# Altium footprint library D-SUB-26.PcbLib: 1 footprints
Each footprint in its own frame and in the unit in brackets; x right, y up, seen from the top. Pads: shape width x height; smd on the part's side, far side on the other; paste and mask are expansions set on the pad; w line width, h text height; cw(c..) or ccw(c..) is an arc to the next point about the centre after c.
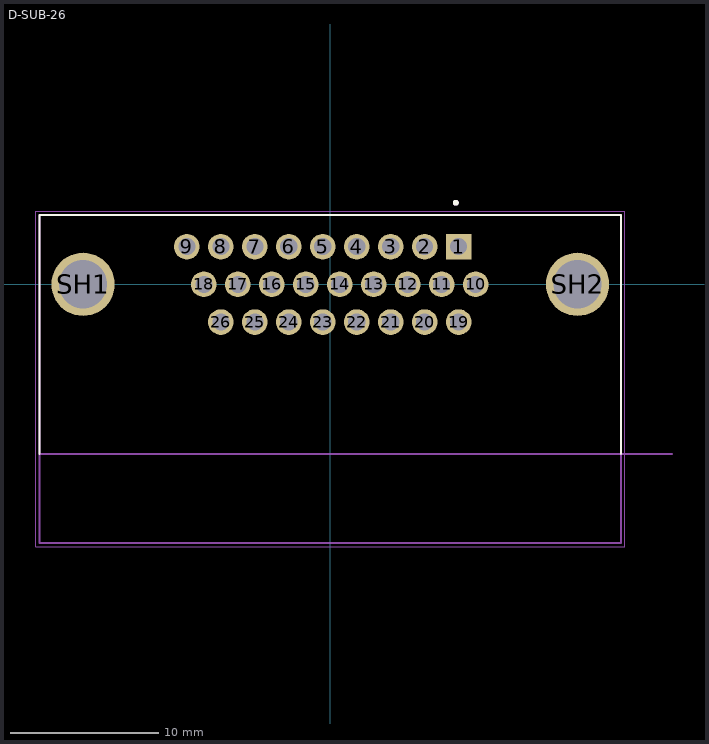
[diagram p0: the footprint, top view; thin cyan lines are the x and y axes]

## D-SUB-26 [mm]
pads (28):
  rect 1.725x1.725 / inner round 1.725 / far side rect 1.725x1.725 hole 1.15: 1(8.65,2.54)
  round 1.725 hole 1.15: 2(6.36,2.54) 3(4.07,2.54) 4(1.78,2.54) 5(-0.51,2.54) 6(-2.8,2.54) 7(-5.09,2.54) 8(-7.38,2.54) 9(-9.67,2.54) 10(9.795,0) 11(7.505,0) 12(5.215,0) 13(2.925,0) 14(0.635,0) 15(-1.655,0) 16(-3.945,0) 17(-6.235,0) 18(-8.525,0) 19(8.65,-2.54) 20(6.36,-2.54) 21(4.07,-2.54) 22(1.78,-2.54) 23(-0.51,-2.54) 24(-2.8,-2.54) 25(-5.09,-2.54) 26(-7.38,-2.54)
  round 4.266 hole 3.25: SH1(-16.66,0) SH2(16.66,0)
Top Overlay:
  circle w0.2: c8.455,5.5 r0.1
  lines w0.127: -19.595,-11.43 -19.595,4.67 19.595,4.67 19.595,-11.43
Mechanical 13:
  circle w0.2: c8.455,5.5 r0.1
  lines w0.127: 23.035,-11.43 19.595,-11.43 ; -19.595,-11.43 -19.595,4.67 19.595,4.67 19.595,-11.43 ; -19.595,-11.43 -19.595,-17.43 19.595,-17.43 19.595,-11.43 ; -19.595,-11.43 19.595,-11.43
  text "PCB Edge" at 20.295,-11.295 h0.81
Mechanical 15:
  lines w0.05: -19.845,-17.68 -19.845,4.92 19.845,4.92 19.845,-17.68 -19.845,-17.68
3D body "step_temp.STEP": height 12.55, standoff -3.8, extent -19.61,-17.43 19.61,4.67